# EAGLE library part HEADER_2X8 (library xnemo)
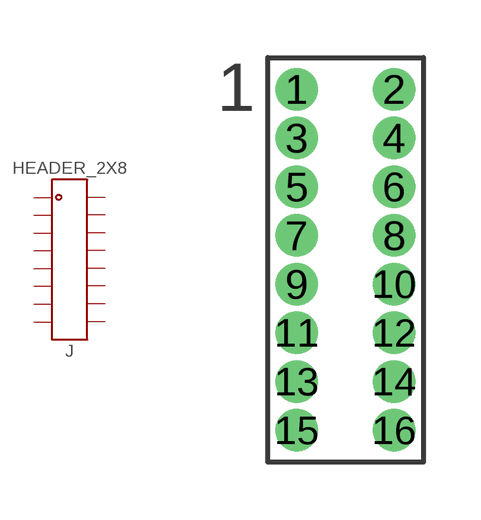
[diagram p13: symbol with the pads of HEADER_2X8_0.05X0.1_THRU; footprint HEADER_2X8_0.05X0.1_THRU]

Designator prefix J

## HEADER_2X8  [HEADER_2X8_0.05X0.1_THRU]
1  1
2  2
3  3
4  4
5  5
6  6
7  7
8  8
9  9
10  10
11  11
12  12
13  13
14  14
15  15
16  16

## Footprint HEADER_2X8_0.05X0.1_THRU (pad centres in mm)
drill 0.6 pad 1.016: 1 -1.27,5.08; 2 1.27,5.08; 3 -1.27,3.81; 4 1.27,3.81; 5 -1.27,2.54; 6 1.27,2.54; 7 -1.27,1.27; 8 1.27,1.27; 9 -1.27,0; 10 1.27,0; 11 -1.27,-1.27; 12 1.27,-1.27; 13 -1.27,-2.54; 14 1.27,-2.54; 15 -1.27,-3.81; 16 1.27,-3.81